# EAGLE library part HOME_AT_MAINBOARD (library HOME_AutomationV_1.0)
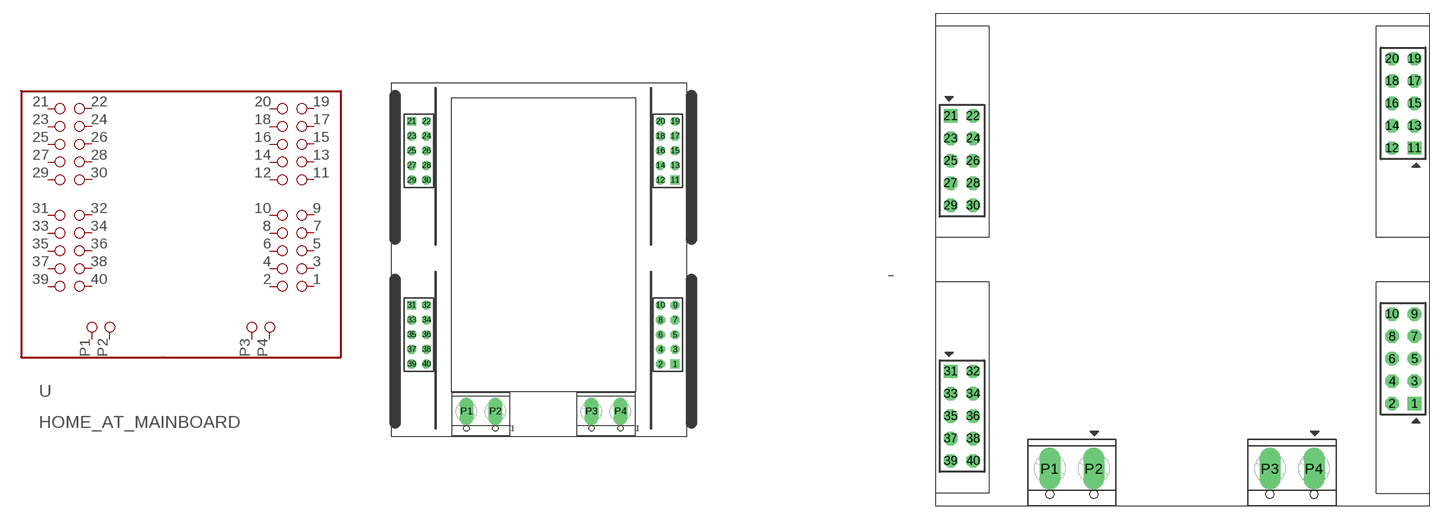
[diagram p6: symbol with the pads of HOME_AT_MAIN_BOARD; footprints HOME_AT_MAIN_BOARD, HOME_AT_MAIN_BOARD_V1]

Designator prefix -

## HOME_AT_MAINBOARD4_1  [HOME_AT_MAIN_BOARD]
1  1  pas
2  2  pas
3  3  pas
4  4  pas
5  5  pas
6  6  pas
7  7  pas
8  8  pas
9  9  pas
10  10  pas
11  11  pas
12  12  pas
13  13  pas
14  14  pas
15  15  pas
16  16  pas
17  17  pas
18  18  pas
19  19  pas
20  20  pas
21  21  pas
22  22  pas
23  23  pas
24  24  pas
25  25  pas
26  26  pas
27  27  pas
28  28  pas
29  29  pas
30  30  pas
31  31  pas
32  32  pas
33  33  pas
34  34  pas
35  35  pas
36  36  pas
37  37  pas
38  38  pas
39  39  pas
40  40  pas
P1  P1  pas
P2  P2  pas
P3  P3  pas
P4  P4  pas

## HOME_AT_MAINBOARDNEW  [HOME_AT_MAIN_BOARD_V1]
Pads as for HOME_AT_MAIN_BOARD

## Footprint HOME_AT_MAIN_BOARD (pad centres in mm)
drill 1.016 square: 1 86.868,13.716; 11 86.868,45.466; 21 41.402,55.626; 31 41.402,23.876
drill 1.016 octagon: 2 84.328,13.716; 3 86.868,16.256; 4 84.328,16.256; 5 86.868,18.796; 6 84.328,18.796; 7 86.868,21.336; 8 84.328,21.336; 9 86.868,23.876; 10 84.328,23.876; 12 84.328,45.466; 13 86.868,48.006; 14 84.328,48.006; 15 86.868,50.546; 16 84.328,50.546; 17 86.868,53.086; 18 84.328,53.086; 19 86.868,55.626; 20 84.328,55.626; 22 43.942,55.626; 23 41.402,53.086; 24 43.942,53.086; 25 41.402,50.546; 26 43.942,50.546; 27 41.402,48.006; 28 43.942,48.006; 29 41.402,45.466; 30 43.942,45.466; 32 43.942,23.876; 33 41.402,21.336; 34 43.942,21.336; 35 41.402,18.796; 36 43.942,18.796; 37 41.402,16.256; 38 43.942,16.256; 39 41.402,13.716; 40 43.942,13.716
drill 1.4 pad 2.38 long: P1 50.84,5.53; P2 55.84,5.53; P3 72.43,5.53; P4 77.43,5.53

## Footprint HOME_AT_MAIN_BOARD_V1 (pad centres in mm)
drill 1.016 square: 1 54.988,11.886; 11 54.988,40.886; 21 2.352,44.534; 31 2.352,15.534
drill 1.016 octagon: 2 52.448,11.886; 3 54.988,14.426; 4 52.448,14.426; 5 54.988,16.966; 6 52.448,16.966; 7 54.988,19.506; 8 52.448,19.506; 9 54.988,22.046; 10 52.448,22.046; 12 52.448,40.886; 13 54.988,43.426; 14 52.448,43.426; 15 54.988,45.966; 16 52.448,45.966; 17 54.988,48.506; 18 52.448,48.506; 19 54.988,51.046; 20 52.448,51.046; 22 4.892,44.534; 23 2.352,41.994; 24 4.892,41.994; 25 2.352,39.454; 26 4.892,39.454; 27 2.352,36.914; 28 4.892,36.914; 29 2.352,34.374; 30 4.892,34.374; 32 4.892,15.534; 33 2.352,12.994; 34 4.892,12.994; 35 2.352,10.454; 36 4.892,10.454; 37 2.352,7.914; 38 4.892,7.914; 39 2.352,5.374; 40 4.892,5.374
drill 1.4 pad 2.38 long: P1 13.592,4.498; P2 18.592,4.498; P3 38.592,4.498; P4 43.592,4.498